# EAGLE library part BQ76920 (library FlashPCB_ICs)
BQ76920 - IC BATT MON MULTI 3-5C 20TSSOP Technical Specifications: Function: Battery Monitor Battery Chemistry: Multi-Chemistry Number of Cells: 3 ~ 5 Fault Protection: Over Current, Over/Under Voltage, Short Circuit Interface: I2C Operating Temperature: -40°C ~ 85°C (TA) Component Search: BQ76920 <https://www.flashpcb.com/components?page=1&searchTerms=BQ76920> Datasheet: BQ769x0 <https://www.ti.com/lit/ds/symlink/bq76920.pdf?HQS=dis-dk-null-digikeymode-dsf-pf-null-wwe&ts=1713993875863&ref_url=https%253A%252F%252Fwww.ti.com%252Fgeneral%252Fdocs%252Fsuppproductinfo.tsp%253FdistId%253D10%2526gotoUrl%253Dhttps%253A%252F%252Fwww.ti.com%252Flit%252Fgpn%252Fbq76920>
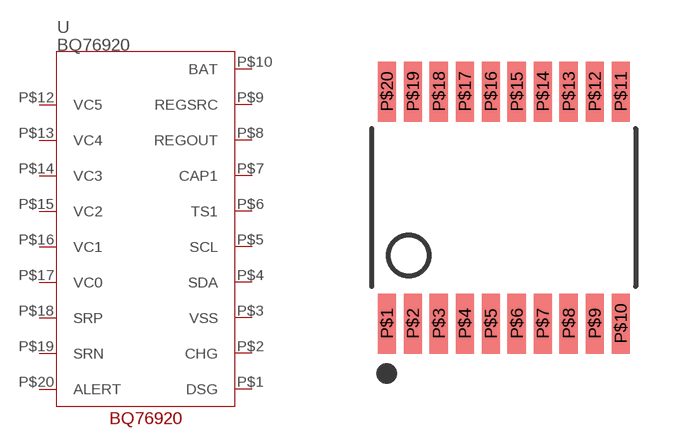
[diagram p29: symbol with the pads of 20-TSSOP; footprint 20-TSSOP]

Designator prefix U

## BQ76920  [20-TSSOP]
P$1  DSG
P$2  CHG
P$3  VSS
P$4  SDA
P$5  SCL
P$6  TS1
P$7  CAP1
P$8  REGOUT
P$9  REGSRC
P$10  BAT
P$12  VC5
P$13  VC4
P$14  VC3
P$15  VC2
P$16  VC1
P$17  VC0
P$18  SRP
P$19  SRN
P$20  ALERT

## Footprint 20-TSSOP (pad centres in mm)
smd 0.45 x 1.5: P$1 -2.925,-2.9; P$2 -2.275,-2.9; P$3 -1.625,-2.9; P$4 -0.975,-2.9; P$5 -0.325,-2.9; P$6 0.325,-2.9; P$7 0.975,-2.9; P$8 1.625,-2.9; P$9 2.275,-2.9; P$10 2.925,-2.9; P$11 2.925,2.9; P$12 2.275,2.9; P$13 1.625,2.9; P$14 0.975,2.9; P$15 0.325,2.9; P$16 -0.325,2.9; P$17 -0.975,2.9; P$18 -1.625,2.9; P$19 -2.275,2.9; P$20 -2.925,2.9